# Altium integrated library MergenElektronik_Logics_LevelShifters.IntLib: 2 symbols
Pins are listed as number, name and electrical type; pins without a type are passive.

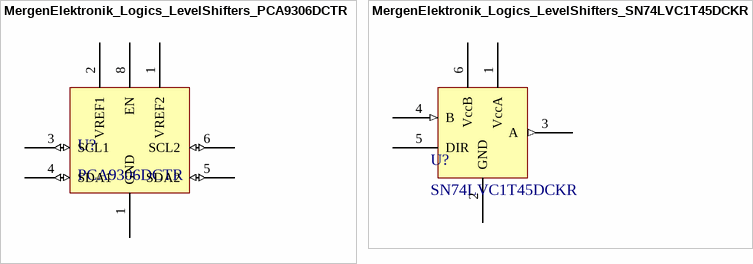
[diagram p0: symbols MergenElektronik_Logics_LevelShifters_PCA9306DCTR to MergenElektronik_Logics_LevelShifters_SN74LVC1T45DCKR]

## MergenElektronik_Logics_LevelShifters_PCA9306DCTR
designator U?, comment PCA9306DCTR
Mergen Elektronik - Logics - Level Shifters - PCA9306DCTR; Manufacturer: Texas Instruments; Voltage Rating: 1.2V up to 5.5V; Outpu Type: Open Drain, Push-Pull; Circuit Channels: 2; Digi-Key Number: 296-18509-2-ND; Manufacturer Number: PCA9306DCTR; Model: Level Shifters; Mounting Type: Surface Mount; Mouser Number: 595-PCA9306DCTR; Package: SSOP-8; Temperature: -40°C up to +105°C; Value: PCA9306DCTR; Farnell Number: 3120911; Supplier 1: Digi-Key; Supplier 2: Mouser; Supplier Part Number 2: 595-PCA9306DCTR; Features: Auto-Direction Sensing; Applications: I2C, UART , SMBUS, PMBUS, Two Signal Interfaces; Supplier Part Number 1: 296-18509-2-ND
footprint MergenElektronik_Logics_LevelShifters_SSOP-8 (SSOP-8)
pins: 1 GND (power), 1 VREF2 (power), 2 VREF1 (power), 3 SCL1 (io), 4 SDA1 (io), 5 SDA2 (io), 6 SCL2 (io), 8 EN

## MergenElektronik_Logics_LevelShifters_SN74LVC1T45DCKR
designator U?, comment SN74LVC1T45DCKR
Mergen Elektronik - Logics - Level Shifters - SN74LVC1T45DCKR; Manufacturer: Texas Instruments; Voltage Rating: 1.65V up to 5.5V; Digi-Key Number: 296-16844-1-ND; Manufacturer Number: SN74LVC1T45DCKR; Model: Level Shifters; Mounting Type: Surface Mount; Mouser Number: 595-SN74LVC1T45DCKR; Package: SOT-363; Temperature: -40°C up to +85°C; Value: SN74LVC1T45DCKR; Farnell Number: 3006213; Supplier 1: Mouser; Supplier 2: Digi-Key; Supplier Part Number 1: 595-SN74LVC1T45DBVR; Supplier Part Number 2: 296-16843-1-ND
footprint MergenElektronik_Logics_LevelShifters_SOT-363 (SOT-363)
pins: 1 VccA (power), 2 GND (power), 3 A (out), 4 B (in), 5 DIR, 6 VccB (power)